# Altium integrated library Silicon Labs Clocks and Oscillators.IntLib: 678 symbols (part 4 of 45)
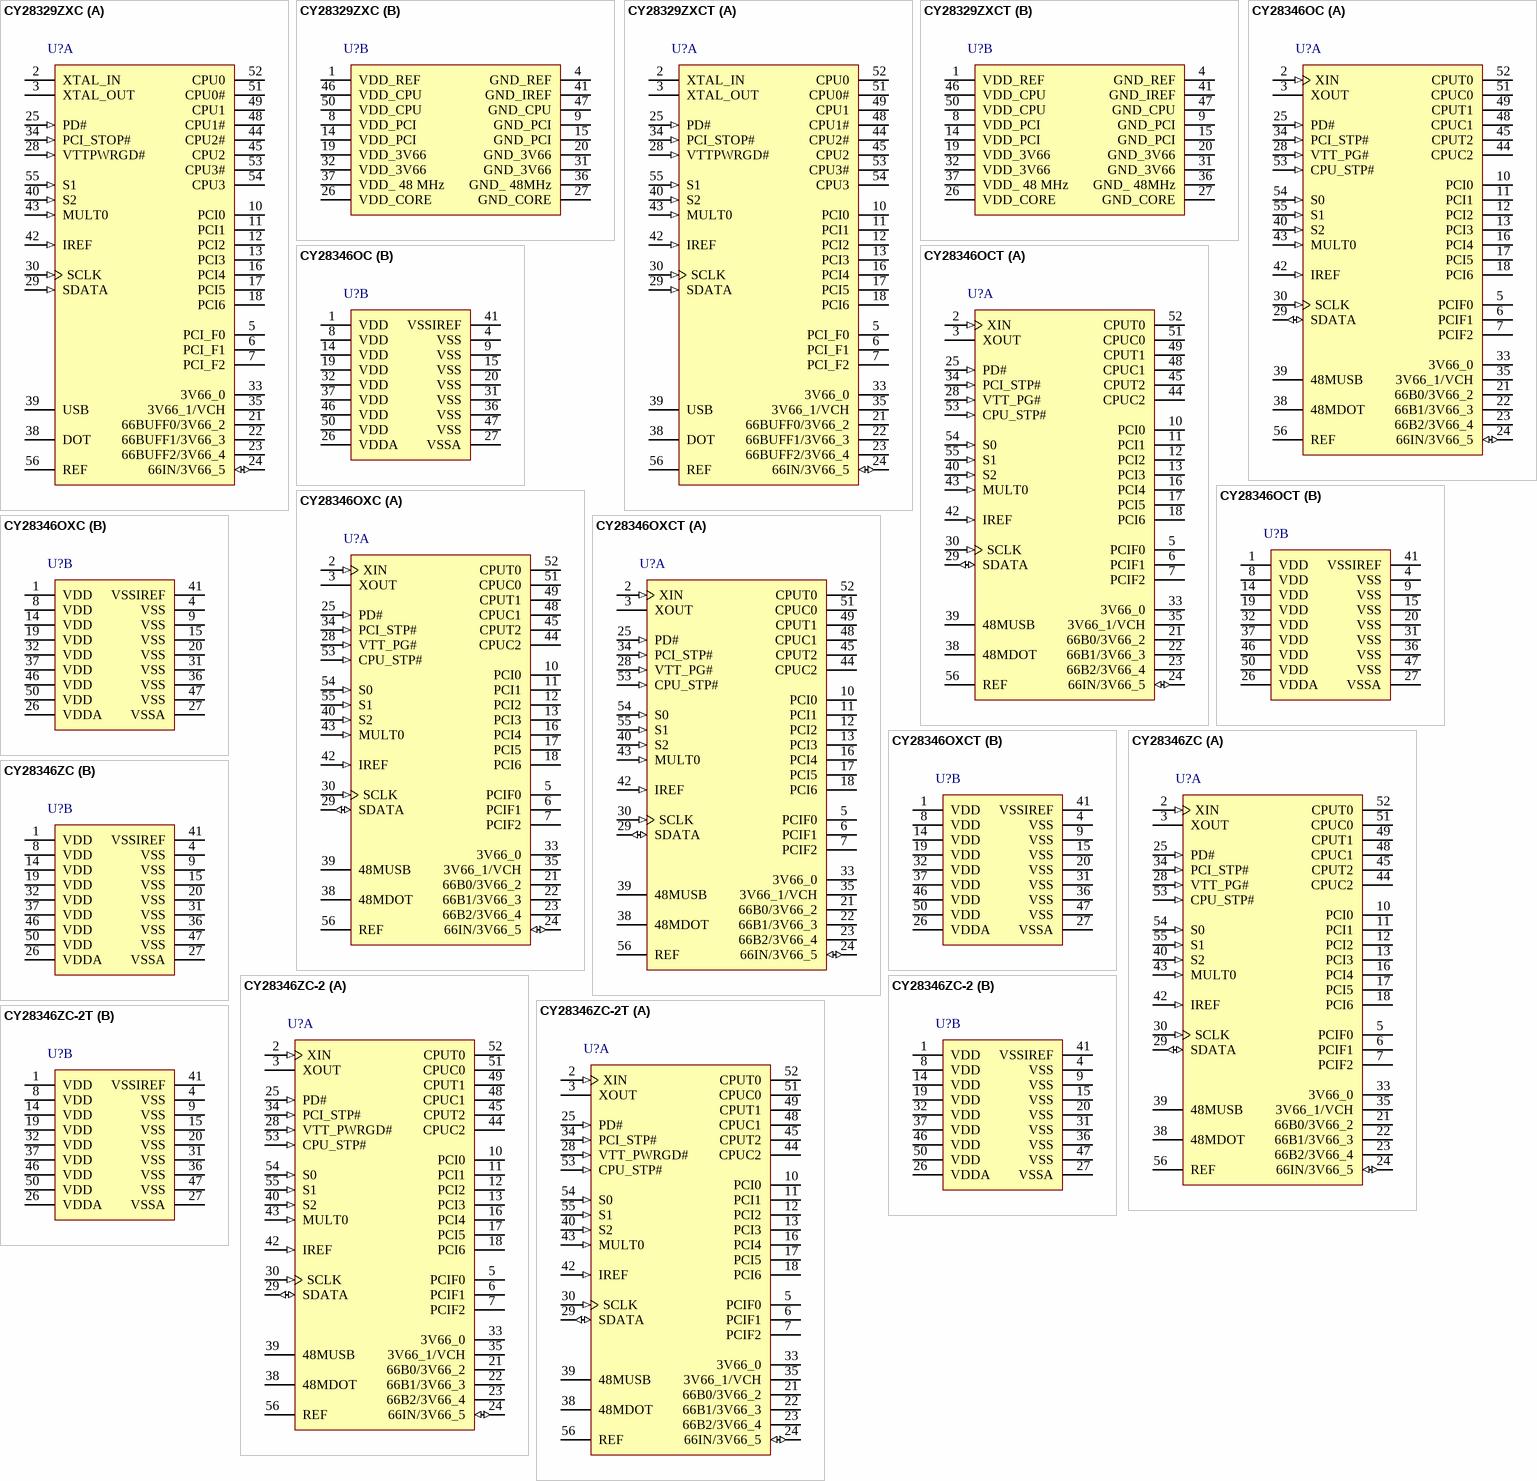
[diagram p47: symbols CY28329ZXC to CY28346ZC-2T]

## CY28346OCT
designator U?
Clock Synthesizer with Differential CPU Outputs, 3.3 V, 200 MHz Max Output, 0 to 70 degC, 56-pin SOP, Tape and Reel; Manufacturer: Silicon Labs; PartNumber: CY28346OCT; Output Format: LVCMOS; HCSL; Output Frequency (MHz): 14.318 ; 33 ; 48 ; 66 ; 66 to 200; Phase Jitter (RMS): > 1 ps; Reference Inputs: 1; VDD: 3.3 V; Sub-Family: Clock Generators; DatasheetVersion: Rev. *C; PackageReference: SSOP-56; PackageDescription: 56-Pin Shrink Small-Outline Package, Body 18.415 x 7.51 mm, Pitch 0.635 mm; Packing: Tape and Reel; Mounting Technology: Surface Mount; ComponentLink1Description: Manufacturer URL; ComponentLink1URL: http://www.silabs.com/; ComponentLink2Description: Datasheet; ComponentLink2URL: http://www.silabs.com/Support%20Documents/TechnicalDocs/CY28346.pdf; ComponentLink3Description: Package Specification; ComponentLink3URL: http://www.silabs.com/Support%20Documents/TechnicalDocs/W158.pdf
footprint SLAB-SSOP-56_N (SOP, 56-Leads, Body 18.5x7.6mm, Pitch 0.635mm, IPC Medium Density)
footprint SLAB-SSOP-56_L (SOP, 56-Leads, Body 18.5x7.6mm, Pitch 0.635mm, IPC High Density)
footprint SLAB-SSOP-56_M (SOP, 56-Leads, Body 18.5x7.6mm, Pitch 0.635mm, IPC Low Density)
part A pins: 2 XIN (in) "Oscillator Buffer Input", 3 XOUT "Oscillator Buffer Output", 5 PCIF0 (hiz) "33MHz PCI Clocks.", 6 PCIF1 (hiz) "33MHz PCI Clocks.", 7 PCIF2 (hiz) "33MHz PCI Clocks.", 10 PCI0 (hiz) "PCI Clock Outputs", 11 PCI1 (hiz) "PCI Clock Outputs", 12 PCI2 (hiz) "PCI Clock Outputs", 13 PCI3 (hiz) "PCI Clock Outputs", 16 PCI4 (hiz) "PCI Clock Outputs", 17 PCI5 (hiz) "PCI Clock Outputs", 18 PCI6 (hiz) "PCI Clock Outputs", 21 66B0/3V66_2 (hiz) "3.3V Clock Outputs", 22 66B1/3V66_3 (hiz) "3.3V Clock Outputs", 23 66B2/3V66_4 (hiz) "3.3V Clock Outputs", 24 66IN/3V66_5 (io) "3.3V Clock Outputs", 25 PD# (in) "Power-down Mode Pin", 28 VTT_PG# (in) "Qualifying Input that Latches S(0:2) and MULT0", 29 SDATA (io) "Serial Data Input", 30 SCLK (in) "Serial Clock Input", 33 3V66_0 (hiz) "3.3V 66 MHz Fixed-frequency Clock.", 34 PCI_STP# (in) "PCI Clock Disable Input", 35 3V66_1/VCH (hiz) "3.3V Clock Selectable with SMBus Byte0,Bit5, When Byte5,Bit5.", 38 48MDOT (hiz) "Fixed 48 MHZ DOT Clock Outputs", 39 48MUSB (hiz) "Fixed 48 MHz USB Clock Outputs", 40 S2 (in) "Frequency Select Input.", 42 IREF (in) "Current Reference Programming Input for CPU Buffers", 43 MULT0 (in) "Programming Input Selection for CPU Clock Current Multiplier.", 44 CPUC2 (hiz) "Differential Host Output Clock Pairs.", 45 CPUT2 (hiz) "Differential Host Output Clock Pairs.", 48 CPUC1 (hiz) "Differential Host Output Clock Pairs.", 49 CPUT1 (hiz) "Differential Host Output Clock Pairs.", 51 CPUC0 (hiz) "Differential Host Output Clock Pairs.", 52 CPUT0 (hiz) "Differential Host Output Clock Pairs.", 53 CPU_STP# (in) "CPU Clock Disable Input", 54 S0 (in) "Frequency Select Inputs", 55 S1 (in) "Frequency Select Inputs", 56 REF (hiz) "Buffered Output Copy of the Device’s XIN Clock."
part B pins: 1 VDD (power) "3.3V Power Supply", 4 VSS (power) "Common Ground.", 8 VDD (power) "3.3V Power Supply", 9 VSS (power) "Common Ground.", 14 VDD (power) "3.3V Power Supply", 15 VSS (power) "Common Ground.", 19 VDD (power) "3.3V Power Supply", 20 VSS (power) "Common Ground.", 26 VDDA (power) "Analog Power Input.", 27 VSSA (power) "Common Ground.", 31 VSS (power) "Common Ground.", 32 VDD (power) "3.3V Power Supply", 36 VSS (power) "Common Ground.", 37 VDD (power) "3.3V Power Supply", 41 VSSIREF (power) "Current Reference Programming Input for CPU Buffers", 46 VDD (power) "3.3V Power Supply", 47 VSS (power) "Common Ground.", 50 VDD (power) "3.3V Power Supply"

## CY28346OXC
designator U?
Clock Synthesizer with Differential CPU Outputs, 3.3 V, 200 MHz Max Output, 0 to 70 degC, 56-pin SOP, Tube; Manufacturer: Silicon Labs; PartNumber: CY28346OXC; Output Format: LVCMOS; HCSL; Output Frequency (MHz): 14.318 ; 33 ; 48 ; 66 ; 66 to 200; Phase Jitter (RMS): > 1 ps; Reference Inputs: 1; VDD: 3.3 V; Sub-Family: Clock Generators; DatasheetVersion: Rev. *C; PackageReference: SSOP-56; PackageDescription: 56-Pin Shrink Small-Outline Package, Body 18.415 x 7.51 mm, Pitch 0.635 mm; Supplier 1: Digi-Key; Supplier Part Number 1: SLCY28346OXC-ND; Supplier 2: Mouser; Supplier Part Number 2: 634-CY28346OXC; Packing: Tube; Mounting Technology: Surface Mount; ComponentLink1Description: Manufacturer URL; ComponentLink1URL: http://www.silabs.com/; ComponentLink2Description: Datasheet; ComponentLink2URL: http://www.silabs.com/Support%20Documents/TechnicalDocs/CY28346.pdf; ComponentLink3Description: Package Specification; ComponentLink3URL: http://www.silabs.com/Support%20Documents/TechnicalDocs/W158.pdf
footprint SLAB-SSOP-56_N (SOP, 56-Leads, Body 18.5x7.6mm, Pitch 0.635mm, IPC Medium Density)
footprint SLAB-SSOP-56_L (SOP, 56-Leads, Body 18.5x7.6mm, Pitch 0.635mm, IPC High Density)
footprint SLAB-SSOP-56_M (SOP, 56-Leads, Body 18.5x7.6mm, Pitch 0.635mm, IPC Low Density)
part A pins: 2 XIN (in) "Oscillator Buffer Input", 3 XOUT "Oscillator Buffer Output", 5 PCIF0 (hiz) "33MHz PCI Clocks.", 6 PCIF1 (hiz) "33MHz PCI Clocks.", 7 PCIF2 (hiz) "33MHz PCI Clocks.", 10 PCI0 (hiz) "PCI Clock Outputs", 11 PCI1 (hiz) "PCI Clock Outputs", 12 PCI2 (hiz) "PCI Clock Outputs", 13 PCI3 (hiz) "PCI Clock Outputs", 16 PCI4 (hiz) "PCI Clock Outputs", 17 PCI5 (hiz) "PCI Clock Outputs", 18 PCI6 (hiz) "PCI Clock Outputs", 21 66B0/3V66_2 (hiz) "3.3V Clock Outputs", 22 66B1/3V66_3 (hiz) "3.3V Clock Outputs", 23 66B2/3V66_4 (hiz) "3.3V Clock Outputs", 24 66IN/3V66_5 (io) "3.3V Clock Outputs", 25 PD# (in) "Power-down Mode Pin", 28 VTT_PG# (in) "Qualifying Input that Latches S(0:2) and MULT0", 29 SDATA (io) "Serial Data Input", 30 SCLK (in) "Serial Clock Input", 33 3V66_0 (hiz) "3.3V 66 MHz Fixed-frequency Clock.", 34 PCI_STP# (in) "PCI Clock Disable Input", 35 3V66_1/VCH (hiz) "3.3V Clock Selectable with SMBus Byte0,Bit5, When Byte5,Bit5.", 38 48MDOT (hiz) "Fixed 48 MHZ DOT Clock Outputs", 39 48MUSB (hiz) "Fixed 48 MHz USB Clock Outputs", 40 S2 (in) "Frequency Select Input.", 42 IREF (in) "Current Reference Programming Input for CPU Buffers", 43 MULT0 (in) "Programming Input Selection for CPU Clock Current Multiplier.", 44 CPUC2 (hiz) "Differential Host Output Clock Pairs.", 45 CPUT2 (hiz) "Differential Host Output Clock Pairs.", 48 CPUC1 (hiz) "Differential Host Output Clock Pairs.", 49 CPUT1 (hiz) "Differential Host Output Clock Pairs.", 51 CPUC0 (hiz) "Differential Host Output Clock Pairs.", 52 CPUT0 (hiz) "Differential Host Output Clock Pairs.", 53 CPU_STP# (in) "CPU Clock Disable Input", 54 S0 (in) "Frequency Select Inputs", 55 S1 (in) "Frequency Select Inputs", 56 REF (hiz) "Buffered Output Copy of the Device’s XIN Clock."
part B pins: 1 VDD (power) "3.3V Power Supply", 4 VSS (power) "Common Ground.", 8 VDD (power) "3.3V Power Supply", 9 VSS (power) "Common Ground.", 14 VDD (power) "3.3V Power Supply", 15 VSS (power) "Common Ground.", 19 VDD (power) "3.3V Power Supply", 20 VSS (power) "Common Ground.", 26 VDDA (power) "Analog Power Input.", 27 VSSA (power) "Common Ground.", 31 VSS (power) "Common Ground.", 32 VDD (power) "3.3V Power Supply", 36 VSS (power) "Common Ground.", 37 VDD (power) "3.3V Power Supply", 41 VSSIREF (power) "Current Reference Programming Input for CPU Buffers", 46 VDD (power) "3.3V Power Supply", 47 VSS (power) "Common Ground.", 50 VDD (power) "3.3V Power Supply"

## CY28346OXCT
designator U?
Clock Synthesizer with Differential CPU Outputs, 3.3 V, 200 MHz Max Output, 0 to 70 degC, 56-pin SOP, Tape and Reel; Manufacturer: Silicon Labs; PartNumber: CY28346OXCT; Output Format: LVCMOS; HCSL; Output Frequency (MHz): 14.318 ; 33 ; 48 ; 66 ; 66 to 200; Phase Jitter (RMS): > 1 ps; Reference Inputs: 1; VDD: 3.3 V; Sub-Family: Clock Generators; DatasheetVersion: Rev. *C; PackageReference: SSOP-56; PackageDescription: 56-Pin Shrink Small-Outline Package, Body 18.415 x 7.51 mm, Pitch 0.635 mm; Supplier 1: Digi-Key; Supplier Part Number 1: SLCY28346OXCT-ND; Supplier 2: Mouser; Supplier Part Number 2: 634-CY28346OXCT; Packing: Tape and Reel; Mounting Technology: Surface Mount; ComponentLink1Description: Manufacturer URL; ComponentLink1URL: http://www.silabs.com/; ComponentLink2Description: Datasheet; ComponentLink2URL: http://www.silabs.com/Support%20Documents/TechnicalDocs/CY28346.pdf; ComponentLink3Description: Package Specification; ComponentLink3URL: http://www.silabs.com/Support%20Documents/TechnicalDocs/W158.pdf
footprint SLAB-SSOP-56_N (SOP, 56-Leads, Body 18.5x7.6mm, Pitch 0.635mm, IPC Medium Density)
footprint SLAB-SSOP-56_L (SOP, 56-Leads, Body 18.5x7.6mm, Pitch 0.635mm, IPC High Density)
footprint SLAB-SSOP-56_M (SOP, 56-Leads, Body 18.5x7.6mm, Pitch 0.635mm, IPC Low Density)
part A pins: 2 XIN (in) "Oscillator Buffer Input", 3 XOUT "Oscillator Buffer Output", 5 PCIF0 (hiz) "33MHz PCI Clocks.", 6 PCIF1 (hiz) "33MHz PCI Clocks.", 7 PCIF2 (hiz) "33MHz PCI Clocks.", 10 PCI0 (hiz) "PCI Clock Outputs", 11 PCI1 (hiz) "PCI Clock Outputs", 12 PCI2 (hiz) "PCI Clock Outputs", 13 PCI3 (hiz) "PCI Clock Outputs", 16 PCI4 (hiz) "PCI Clock Outputs", 17 PCI5 (hiz) "PCI Clock Outputs", 18 PCI6 (hiz) "PCI Clock Outputs", 21 66B0/3V66_2 (hiz) "3.3V Clock Outputs", 22 66B1/3V66_3 (hiz) "3.3V Clock Outputs", 23 66B2/3V66_4 (hiz) "3.3V Clock Outputs", 24 66IN/3V66_5 (io) "3.3V Clock Outputs", 25 PD# (in) "Power-down Mode Pin", 28 VTT_PG# (in) "Qualifying Input that Latches S(0:2) and MULT0", 29 SDATA (io) "Serial Data Input", 30 SCLK (in) "Serial Clock Input", 33 3V66_0 (hiz) "3.3V 66 MHz Fixed-frequency Clock.", 34 PCI_STP# (in) "PCI Clock Disable Input", 35 3V66_1/VCH (hiz) "3.3V Clock Selectable with SMBus Byte0,Bit5, When Byte5,Bit5.", 38 48MDOT (hiz) "Fixed 48 MHZ DOT Clock Outputs", 39 48MUSB (hiz) "Fixed 48 MHz USB Clock Outputs", 40 S2 (in) "Frequency Select Input.", 42 IREF (in) "Current Reference Programming Input for CPU Buffers", 43 MULT0 (in) "Programming Input Selection for CPU Clock Current Multiplier.", 44 CPUC2 (hiz) "Differential Host Output Clock Pairs.", 45 CPUT2 (hiz) "Differential Host Output Clock Pairs.", 48 CPUC1 (hiz) "Differential Host Output Clock Pairs.", 49 CPUT1 (hiz) "Differential Host Output Clock Pairs.", 51 CPUC0 (hiz) "Differential Host Output Clock Pairs.", 52 CPUT0 (hiz) "Differential Host Output Clock Pairs.", 53 CPU_STP# (in) "CPU Clock Disable Input", 54 S0 (in) "Frequency Select Inputs", 55 S1 (in) "Frequency Select Inputs", 56 REF (hiz) "Buffered Output Copy of the Device’s XIN Clock."
part B pins: 1 VDD (power) "3.3V Power Supply", 4 VSS (power) "Common Ground.", 8 VDD (power) "3.3V Power Supply", 9 VSS (power) "Common Ground.", 14 VDD (power) "3.3V Power Supply", 15 VSS (power) "Common Ground.", 19 VDD (power) "3.3V Power Supply", 20 VSS (power) "Common Ground.", 26 VDDA (power) "Analog Power Input.", 27 VSSA (power) "Common Ground.", 31 VSS (power) "Common Ground.", 32 VDD (power) "3.3V Power Supply", 36 VSS (power) "Common Ground.", 37 VDD (power) "3.3V Power Supply", 41 VSSIREF (power) "Current Reference Programming Input for CPU Buffers", 46 VDD (power) "3.3V Power Supply", 47 VSS (power) "Common Ground.", 50 VDD (power) "3.3V Power Supply"

## CY28346ZC
designator U?
Clock Synthesizer with Differential CPU Outputs, 3.3 V, 200 MHz Max Output, 0 to 70 degC, 56-pin SOP, Tube; Manufacturer: Silicon Labs; PartNumber: CY28346ZC; Output Format: LVCMOS; HCSL; Output Frequency (MHz): 14.318 ; 33 ; 48 ; 66 ; 66 to 200; Phase Jitter (RMS): > 1 ps; Reference Inputs: 1; VDD: 3.3 V; Sub-Family: Clock Generators; DatasheetVersion: Rev. *C; PackageReference: TSSOP-56; PackageDescription: 56-Pin Thin Shrink Small-Outline Package, Body 14 x 6.1 mm, Pitch 0.5 mm; Supplier 1: Digi-Key; Supplier Part Number 1: CY28346ZC-ND; Supplier 2: Mouser; Supplier Part Number 2: 634-CY28346ZC; Packing: Tube; Mounting Technology: Surface Mount; Code_JEDEC: MO-153; ComponentLink1Description: Manufacturer URL; ComponentLink1URL: http://www.silabs.com/; ComponentLink2Description: Datasheet; ComponentLink2URL: http://www.silabs.com/Support%20Documents/TechnicalDocs/CY28346.pdf; ComponentLink3Description: Package Specification; ComponentLink3URL: http://www.silabs.com/Support%20Documents/TechnicalDocs/CY28346-2.pdf
footprint SLAB-TSSOP-56_N (SOP, 56-Leads, Body 14.1x6.2mm, Pitch 0.5mm, IPC Medium Density)
footprint SLAB-TSSOP-56_L (SOP, 56-Leads, Body 14.1x6.2mm, Pitch 0.5mm, IPC High Density)
footprint SLAB-TSSOP-56_M (SOP, 56-Leads, Body 14.1x6.2mm, Pitch 0.5mm, IPC Low Density)
part A pins: 2 XIN (in) "Oscillator Buffer Input", 3 XOUT "Oscillator Buffer Output", 5 PCIF0 (hiz) "33MHz PCI Clocks.", 6 PCIF1 (hiz) "33MHz PCI Clocks.", 7 PCIF2 (hiz) "33MHz PCI Clocks.", 10 PCI0 (hiz) "PCI Clock Outputs", 11 PCI1 (hiz) "PCI Clock Outputs", 12 PCI2 (hiz) "PCI Clock Outputs", 13 PCI3 (hiz) "PCI Clock Outputs", 16 PCI4 (hiz) "PCI Clock Outputs", 17 PCI5 (hiz) "PCI Clock Outputs", 18 PCI6 (hiz) "PCI Clock Outputs", 21 66B0/3V66_2 (hiz) "3.3V Clock Outputs", 22 66B1/3V66_3 (hiz) "3.3V Clock Outputs", 23 66B2/3V66_4 (hiz) "3.3V Clock Outputs", 24 66IN/3V66_5 (io) "3.3V Clock Outputs", 25 PD# (in) "Power-down Mode Pin", 28 VTT_PG# (in) "Qualifying Input that Latches S(0:2) and MULT0", 29 SDATA (io) "Serial Data Input", 30 SCLK (in) "Serial Clock Input", 33 3V66_0 (hiz) "3.3V 66 MHz Fixed-frequency Clock.", 34 PCI_STP# (in) "PCI Clock Disable Input", 35 3V66_1/VCH (hiz) "3.3V Clock Selectable with SMBus Byte0,Bit5, When Byte5,Bit5.", 38 48MDOT (hiz) "Fixed 48 MHZ DOT Clock Outputs", 39 48MUSB (hiz) "Fixed 48 MHz USB Clock Outputs", 40 S2 (in) "Frequency Select Input.", 42 IREF (in) "Current Reference Programming Input for CPU Buffers", 43 MULT0 (in) "Programming Input Selection for CPU Clock Current Multiplier.", 44 CPUC2 (hiz) "Differential Host Output Clock Pairs.", 45 CPUT2 (hiz) "Differential Host Output Clock Pairs.", 48 CPUC1 (hiz) "Differential Host Output Clock Pairs.", 49 CPUT1 (hiz) "Differential Host Output Clock Pairs.", 51 CPUC0 (hiz) "Differential Host Output Clock Pairs.", 52 CPUT0 (hiz) "Differential Host Output Clock Pairs.", 53 CPU_STP# (in) "CPU Clock Disable Input", 54 S0 (in) "Frequency Select Inputs", 55 S1 (in) "Frequency Select Inputs", 56 REF (hiz) "Buffered Output Copy of the Device’s XIN Clock."
part B pins: 1 VDD (power) "3.3V Power Supply", 4 VSS (power) "Common Ground.", 8 VDD (power) "3.3V Power Supply", 9 VSS (power) "Common Ground.", 14 VDD (power) "3.3V Power Supply", 15 VSS (power) "Common Ground.", 19 VDD (power) "3.3V Power Supply", 20 VSS (power) "Common Ground.", 26 VDDA (power) "Analog Power Input.", 27 VSSA (power) "Common Ground.", 31 VSS (power) "Common Ground.", 32 VDD (power) "3.3V Power Supply", 36 VSS (power) "Common Ground.", 37 VDD (power) "3.3V Power Supply", 41 VSSIREF (power) "Current Reference Programming Input for CPU Buffers", 46 VDD (power) "3.3V Power Supply", 47 VSS (power) "Common Ground.", 50 VDD (power) "3.3V Power Supply"

## CY28346ZC-2
designator U?
Clock Synthesizer with Differential CPU Outputs, 3.3 V, 200 MHz Max Output, 0 to 70 degC, 56-pin SOP, Tube; Manufacturer: Silicon Labs; PartNumber: CY28346ZC-2; Output Format: LVCMOS; HCSL; Output Frequency (MHz): 14.318 ; 33 ; 48 ; 66 ; 66 to 200; Phase Jitter (RMS): > 1 ps; Reference Inputs: 1; VDD: 3.3 V; Sub-Family: Clock Generators; DatasheetVersion: Rev. *B; PackageReference: TSSOP-56; PackageDescription: 56-Pin Thin Shrink Small-Outline Package, Body 14 x 6.1 mm, Pitch 0.5 mm; Packing: Tube; Mounting Technology: Surface Mount; Code_JEDEC: MO-153; ComponentLink1Description: Manufacturer URL; ComponentLink1URL: http://www.silabs.com/; ComponentLink2Description: Datasheet; ComponentLink2URL: http://www.silabs.com/Support%20Documents/TechnicalDocs/CY28346-2.pdf; ComponentLink3Description: Package Specification; ComponentLink3URL: http://www.silabs.com/Support%20Documents/TechnicalDocs/CY28346-2.pdf
footprint SLAB-TSSOP-56_N (SOP, 56-Leads, Body 14.1x6.2mm, Pitch 0.5mm, IPC Medium Density)
footprint SLAB-TSSOP-56_L (SOP, 56-Leads, Body 14.1x6.2mm, Pitch 0.5mm, IPC High Density)
footprint SLAB-TSSOP-56_M (SOP, 56-Leads, Body 14.1x6.2mm, Pitch 0.5mm, IPC Low Density)
part A pins: 2 XIN (in) "Oscillator Buffer Input", 3 XOUT "Oscillator Buffer Output", 5 PCIF0 (hiz) "33MHz PCI Clocks.", 6 PCIF1 (hiz) "33MHz PCI Clocks.", 7 PCIF2 (hiz) "33MHz PCI Clocks.", 10 PCI0 (hiz) "PCI Clock Outputs", 11 PCI1 (hiz) "PCI Clock Outputs", 12 PCI2 (hiz) "PCI Clock Outputs", 13 PCI3 (hiz) "PCI Clock Outputs", 16 PCI4 (hiz) "PCI Clock Outputs", 17 PCI5 (hiz) "PCI Clock Outputs", 18 PCI6 (hiz) "PCI Clock Outputs", 21 66B0/3V66_2 (hiz) "3.3V Clock Outputs", 22 66B1/3V66_3 (hiz) "3.3V Clock Outputs", 23 66B2/3V66_4 (hiz) "3.3V Clock Outputs", 24 66IN/3V66_5 (io) "Input connection for 66CLK(0:2) output clock buffers if S2 = 1", 25 PD# (in) "This pin is a power-down mode pin.", 28 VTT_PWRGD# (in) "Qualifying Input that Latches S(0:2) and MULT0", 29 SDATA (io) "Serial Data Input", 30 SCLK (in) "Serial Clock Input", 33 3V66_0 (hiz) "3.3V 66 MHz Fixed-frequency Clock.", 34 PCI_STP# (in) "PCI Clock Disable Input", 35 3V66_1/VCH (hiz) "3.3V Clock Selectable with SMBus Byte0,Bit5, When Byte5,Bit5.", 38 48MDOT (hiz) "Fixed 48 MHZ DOT Clock Outputs", 39 48MUSB (hiz) "Fixed 48 MHz USB Clock Outputs", 40 S2 (in) "Frequency Select Input.", 42 IREF (in) "Current Reference Programming Input for CPU Buffers", 43 MULT0 (in) "Programming Input Selection for CPU Clock Current Multiplier.", 44 CPUC2 (hiz) "Differential Host Output Clock Pairs.", 45 CPUT2 (hiz) "Differential Host Output Clock Pairs.", 48 CPUC1 (hiz) "Differential Host Output Clock Pairs.", 49 CPUT1 (hiz) "Differential Host Output Clock Pairs.", 51 CPUC0 (hiz) "Differential Host Output Clock Pairs.", 52 CPUT0 (hiz) "Differential Host Output Clock Pairs.", 53 CPU_STP# (in) "CPU Clock Disable Input", 54 S0 (in) "Frequency Select Inputs", 55 S1 (in) "Frequency Select Inputs", 56 REF (hiz) "Buffered Output Copy of the Device’s XIN Clock."
part B pins: 1 VDD (power) "3.3V Power Supply", 4 VSS (power) "Common Ground.", 8 VDD (power) "3.3V Power Supply", 9 VSS (power) "Common Ground.", 14 VDD (power) "3.3V Power Supply", 15 VSS (power) "Common Ground.", 19 VDD (power) "3.3V Power Supply", 20 VSS (power) "Common Ground.", 26 VDDA (power) "Analog Power Input.", 27 VSSA (power) "Common Ground.", 31 VSS (power) "Common Ground.", 32 VDD (power) "3.3V Power Supply", 36 VSS (power) "Common Ground.", 37 VDD (power) "3.3V Power Supply", 41 VSSIREF (power) "Current Reference Programming Input for CPU Buffers", 46 VDD (power) "3.3V Power Supply", 47 VSS (power) "Common Ground.", 50 VDD (power) "3.3V Power Supply"

## CY28346ZC-2T
designator U?
Clock Synthesizer with Differential CPU Outputs, 3.3 V, 200 MHz Max Output, 0 to 70 degC, 56-pin SOP, Tape and Reel; Manufacturer: Silicon Labs; PartNumber: CY28346ZC-2T; Output Format: LVCMOS; HCSL; Output Frequency (MHz): 14.318 ; 33 ; 48 ; 66 ; 66 to 200; Phase Jitter (RMS): > 1 ps; Reference Inputs: 1; VDD: 3.3 V; Sub-Family: Clock Generators; DatasheetVersion: Rev. *B; PackageReference: TSSOP-56; PackageDescription: 56-Pin Thin Shrink Small-Outline Package, Body 14 x 6.1 mm, Pitch 0.5 mm; Packing: Tape and Reel; Mounting Technology: Surface Mount; Code_JEDEC: MO-153; ComponentLink1Description: Manufacturer URL; ComponentLink1URL: http://www.silabs.com/; ComponentLink2Description: Datasheet; ComponentLink2URL: http://www.silabs.com/Support%20Documents/TechnicalDocs/CY28346-2.pdf; ComponentLink3Description: Package Specification; ComponentLink3URL: http://www.silabs.com/Support%20Documents/TechnicalDocs/CY28346-2.pdf
footprint SLAB-TSSOP-56_N (SOP, 56-Leads, Body 14.1x6.2mm, Pitch 0.5mm, IPC Medium Density)
footprint SLAB-TSSOP-56_L (SOP, 56-Leads, Body 14.1x6.2mm, Pitch 0.5mm, IPC High Density)
footprint SLAB-TSSOP-56_M (SOP, 56-Leads, Body 14.1x6.2mm, Pitch 0.5mm, IPC Low Density)
part A pins: 2 XIN (in) "Oscillator Buffer Input", 3 XOUT "Oscillator Buffer Output", 5 PCIF0 (hiz) "33MHz PCI Clocks.", 6 PCIF1 (hiz) "33MHz PCI Clocks.", 7 PCIF2 (hiz) "33MHz PCI Clocks.", 10 PCI0 (hiz) "PCI Clock Outputs", 11 PCI1 (hiz) "PCI Clock Outputs", 12 PCI2 (hiz) "PCI Clock Outputs", 13 PCI3 (hiz) "PCI Clock Outputs", 16 PCI4 (hiz) "PCI Clock Outputs", 17 PCI5 (hiz) "PCI Clock Outputs", 18 PCI6 (hiz) "PCI Clock Outputs", 21 66B0/3V66_2 (hiz) "3.3V Clock Outputs", 22 66B1/3V66_3 (hiz) "3.3V Clock Outputs", 23 66B2/3V66_4 (hiz) "3.3V Clock Outputs", 24 66IN/3V66_5 (io) "Input connection for 66CLK(0:2) output clock buffers if S2 = 1", 25 PD# (in) "This pin is a power-down mode pin.", 28 VTT_PWRGD# (in) "Qualifying Input that Latches S(0:2) and MULT0", 29 SDATA (io) "Serial Data Input", 30 SCLK (in) "Serial Clock Input", 33 3V66_0 (hiz) "3.3V 66 MHz Fixed-frequency Clock.", 34 PCI_STP# (in) "PCI Clock Disable Input", 35 3V66_1/VCH (hiz) "3.3V Clock Selectable with SMBus Byte0,Bit5, When Byte5,Bit5.", 38 48MDOT (hiz) "Fixed 48 MHZ DOT Clock Outputs", 39 48MUSB (hiz) "Fixed 48 MHz USB Clock Outputs", 40 S2 (in) "Frequency Select Input.", 42 IREF (in) "Current Reference Programming Input for CPU Buffers", 43 MULT0 (in) "Programming Input Selection for CPU Clock Current Multiplier.", 44 CPUC2 (hiz) "Differential Host Output Clock Pairs.", 45 CPUT2 (hiz) "Differential Host Output Clock Pairs.", 48 CPUC1 (hiz) "Differential Host Output Clock Pairs.", 49 CPUT1 (hiz) "Differential Host Output Clock Pairs.", 51 CPUC0 (hiz) "Differential Host Output Clock Pairs.", 52 CPUT0 (hiz) "Differential Host Output Clock Pairs.", 53 CPU_STP# (in) "CPU Clock Disable Input", 54 S0 (in) "Frequency Select Inputs", 55 S1 (in) "Frequency Select Inputs", 56 REF (hiz) "Buffered Output Copy of the Device’s XIN Clock."
part B pins: 1 VDD (power) "3.3V Power Supply", 4 VSS (power) "Common Ground.", 8 VDD (power) "3.3V Power Supply", 9 VSS (power) "Common Ground.", 14 VDD (power) "3.3V Power Supply", 15 VSS (power) "Common Ground.", 19 VDD (power) "3.3V Power Supply", 20 VSS (power) "Common Ground.", 26 VDDA (power) "Analog Power Input.", 27 VSSA (power) "Common Ground.", 31 VSS (power) "Common Ground.", 32 VDD (power) "3.3V Power Supply", 36 VSS (power) "Common Ground.", 37 VDD (power) "3.3V Power Supply", 41 VSSIREF (power) "Current Reference Programming Input for CPU Buffers", 46 VDD (power) "3.3V Power Supply", 47 VSS (power) "Common Ground.", 50 VDD (power) "3.3V Power Supply"

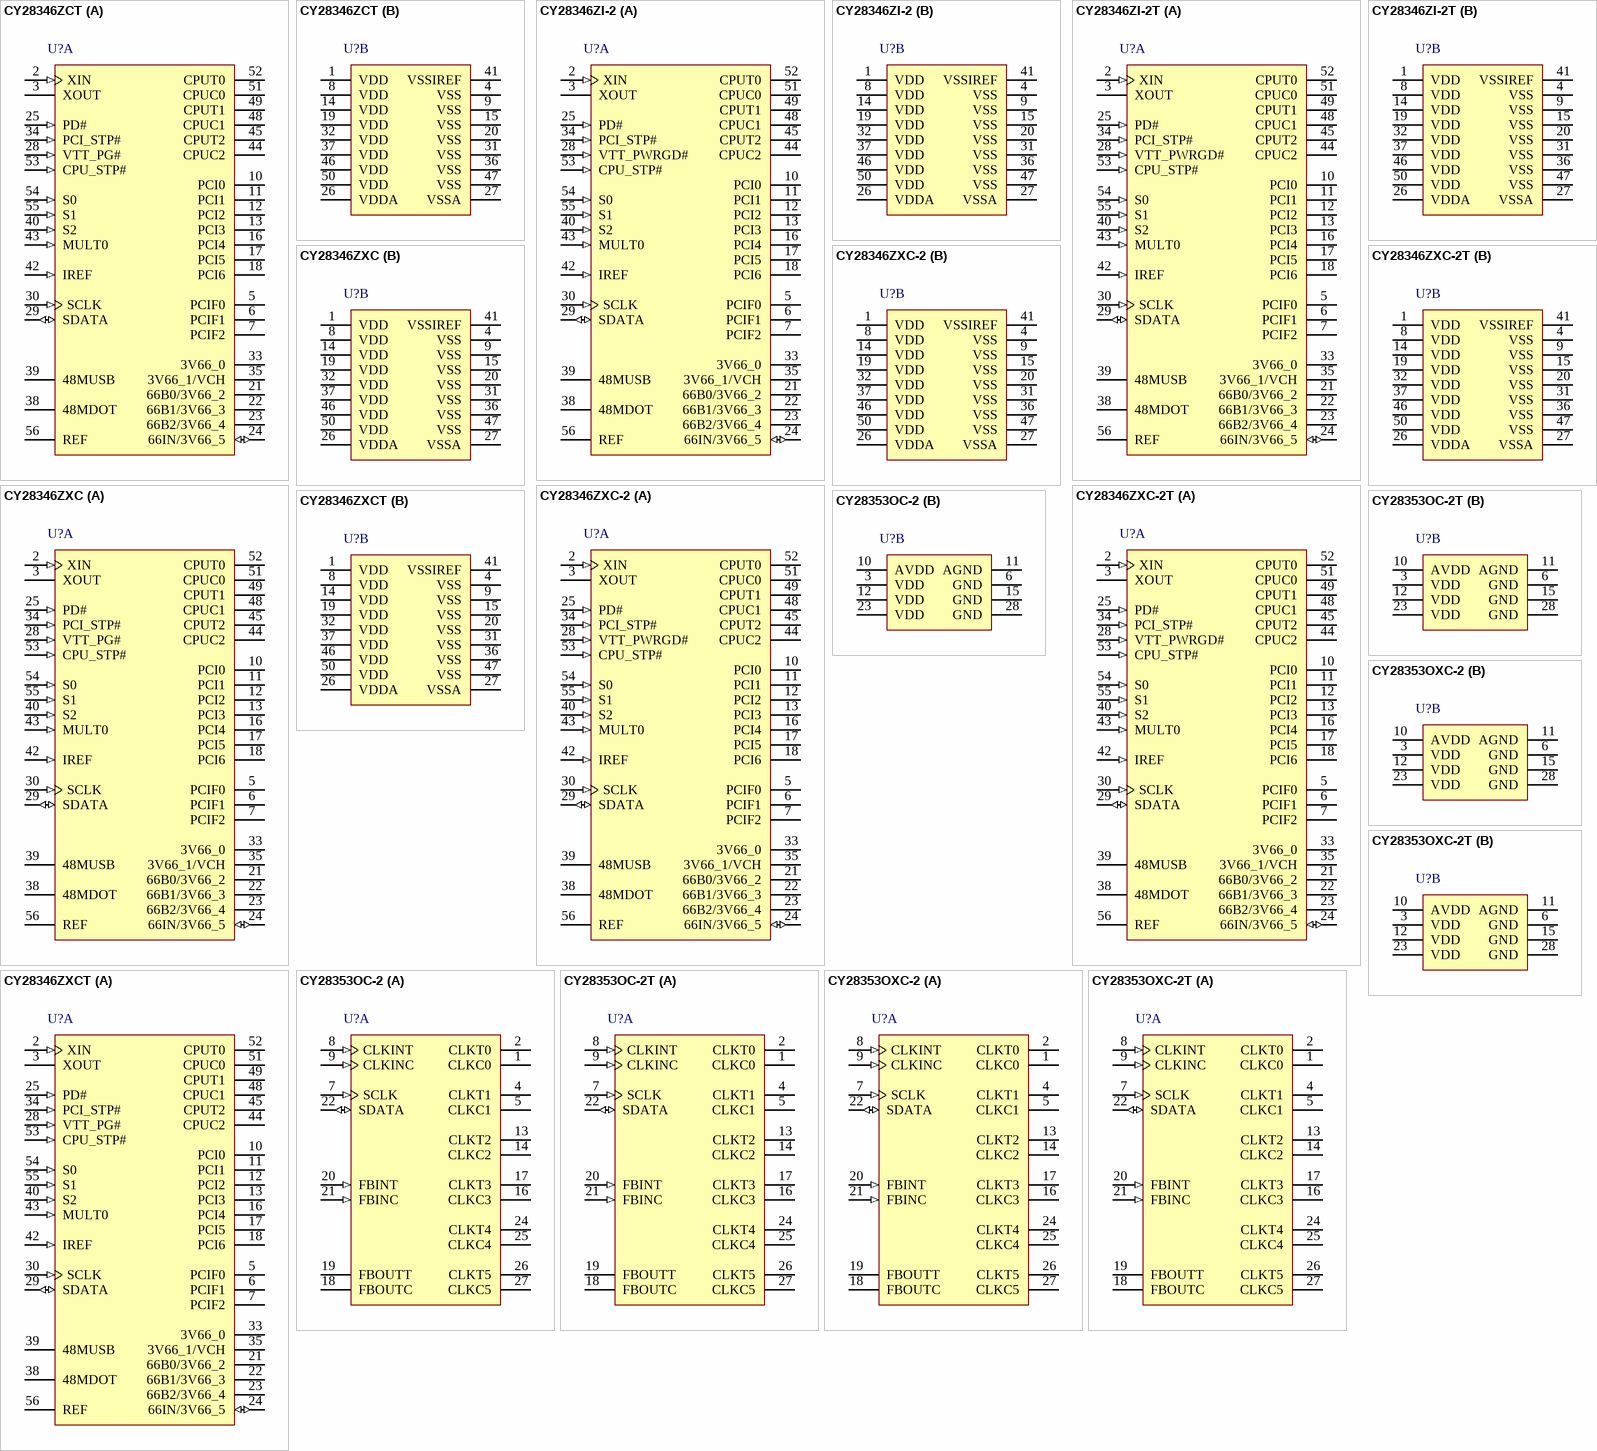
[diagram p4: symbols CY28346ZCT to CY28353OXC-2T]

## CY28346ZCT
designator U?
Clock Synthesizer with Differential CPU Outputs, 3.3 V, 200 MHz Max Output, 0 to 70 degC, 56-pin SOP, Tape and Reel; Manufacturer: Silicon Labs; PartNumber: CY28346ZCT; Output Format: LVCMOS; HCSL; Output Frequency (MHz): 14.318 ; 33 ; 48 ; 66 ; 66 to 200; Phase Jitter (RMS): > 1 ps; Reference Inputs: 1; VDD: 3.3 V; Sub-Family: Clock Generators; DatasheetVersion: Rev. *C; PackageReference: TSSOP-56; PackageDescription: 56-Pin Thin Shrink Small-Outline Package, Body 14 x 6.1 mm, Pitch 0.5 mm; Supplier 1: Digi-Key; Supplier Part Number 1: CY28346ZCT-ND; Supplier 2: Mouser; Supplier Part Number 2: 634-CY28346ZCT; Packing: Tape and Reel; Mounting Technology: Surface Mount; Code_JEDEC: MO-153; ComponentLink1Description: Manufacturer URL; ComponentLink1URL: http://www.silabs.com/; ComponentLink2Description: Datasheet; ComponentLink2URL: http://www.silabs.com/Support%20Documents/TechnicalDocs/CY28346.pdf; ComponentLink3Description: Package Specification; ComponentLink3URL: http://www.silabs.com/Support%20Documents/TechnicalDocs/CY28346-2.pdf
footprint SLAB-TSSOP-56_N (SOP, 56-Leads, Body 14.1x6.2mm, Pitch 0.5mm, IPC Medium Density)
footprint SLAB-TSSOP-56_L (SOP, 56-Leads, Body 14.1x6.2mm, Pitch 0.5mm, IPC High Density)
footprint SLAB-TSSOP-56_M (SOP, 56-Leads, Body 14.1x6.2mm, Pitch 0.5mm, IPC Low Density)
part A pins: 2 XIN (in) "Oscillator Buffer Input", 3 XOUT "Oscillator Buffer Output", 5 PCIF0 (hiz) "33MHz PCI Clocks.", 6 PCIF1 (hiz) "33MHz PCI Clocks.", 7 PCIF2 (hiz) "33MHz PCI Clocks.", 10 PCI0 (hiz) "PCI Clock Outputs", 11 PCI1 (hiz) "PCI Clock Outputs", 12 PCI2 (hiz) "PCI Clock Outputs", 13 PCI3 (hiz) "PCI Clock Outputs", 16 PCI4 (hiz) "PCI Clock Outputs", 17 PCI5 (hiz) "PCI Clock Outputs", 18 PCI6 (hiz) "PCI Clock Outputs", 21 66B0/3V66_2 (hiz) "3.3V Clock Outputs", 22 66B1/3V66_3 (hiz) "3.3V Clock Outputs", 23 66B2/3V66_4 (hiz) "3.3V Clock Outputs", 24 66IN/3V66_5 (io) "3.3V Clock Outputs", 25 PD# (in) "Power-down Mode Pin", 28 VTT_PG# (in) "Qualifying Input that Latches S(0:2) and MULT0", 29 SDATA (io) "Serial Data Input", 30 SCLK (in) "Serial Clock Input", 33 3V66_0 (hiz) "3.3V 66 MHz Fixed-frequency Clock.", 34 PCI_STP# (in) "PCI Clock Disable Input", 35 3V66_1/VCH (hiz) "3.3V Clock Selectable with SMBus Byte0,Bit5, When Byte5,Bit5.", 38 48MDOT (hiz) "Fixed 48 MHZ DOT Clock Outputs", 39 48MUSB (hiz) "Fixed 48 MHz USB Clock Outputs", 40 S2 (in) "Frequency Select Input.", 42 IREF (in) "Current Reference Programming Input for CPU Buffers", 43 MULT0 (in) "Programming Input Selection for CPU Clock Current Multiplier.", 44 CPUC2 (hiz) "Differential Host Output Clock Pairs.", 45 CPUT2 (hiz) "Differential Host Output Clock Pairs.", 48 CPUC1 (hiz) "Differential Host Output Clock Pairs.", 49 CPUT1 (hiz) "Differential Host Output Clock Pairs.", 51 CPUC0 (hiz) "Differential Host Output Clock Pairs.", 52 CPUT0 (hiz) "Differential Host Output Clock Pairs.", 53 CPU_STP# (in) "CPU Clock Disable Input", 54 S0 (in) "Frequency Select Inputs", 55 S1 (in) "Frequency Select Inputs", 56 REF (hiz) "Buffered Output Copy of the Device’s XIN Clock."
part B pins: 1 VDD (power) "3.3V Power Supply", 4 VSS (power) "Common Ground.", 8 VDD (power) "3.3V Power Supply", 9 VSS (power) "Common Ground.", 14 VDD (power) "3.3V Power Supply", 15 VSS (power) "Common Ground.", 19 VDD (power) "3.3V Power Supply", 20 VSS (power) "Common Ground.", 26 VDDA (power) "Analog Power Input.", 27 VSSA (power) "Common Ground.", 31 VSS (power) "Common Ground.", 32 VDD (power) "3.3V Power Supply", 36 VSS (power) "Common Ground.", 37 VDD (power) "3.3V Power Supply", 41 VSSIREF (power) "Current Reference Programming Input for CPU Buffers", 46 VDD (power) "3.3V Power Supply", 47 VSS (power) "Common Ground.", 50 VDD (power) "3.3V Power Supply"

## CY28346ZI-2
designator U?
Clock Synthesizer with Differential CPU Outputs, 3.3 V, 200 MHz Max Output, 0 to 85 degC, 56-pin SOP, Tube; Manufacturer: Silicon Labs; PartNumber: CY28346ZI-2; Output Format: LVCMOS; HCSL; Output Frequency (MHz): 14.318 ; 33 ; 48 ; 66 ; 66 to 200; Phase Jitter (RMS): > 1 ps; Reference Inputs: 1; VDD: 3.3 V; Sub-Family: Clock Generators; DatasheetVersion: Rev. *B; PackageReference: TSSOP-56; PackageDescription: 56-Pin Thin Shrink Small-Outline Package, Body 14 x 6.1 mm, Pitch 0.5 mm; Supplier 1: Digi-Key; Supplier Part Number 1: CY28346ZI-2-ND; Supplier 2: Mouser; Supplier Part Number 2: 634-CY28346ZI-2; Packing: Tube; Mounting Technology: Surface Mount; Code_JEDEC: MO-153; ComponentLink1Description: Manufacturer URL; ComponentLink1URL: http://www.silabs.com/; ComponentLink2Description: Datasheet; ComponentLink2URL: http://www.silabs.com/Support%20Documents/TechnicalDocs/CY28346-2.pdf; ComponentLink3Description: Package Specification; ComponentLink3URL: http://www.silabs.com/Support%20Documents/TechnicalDocs/CY28346-2.pdf
footprint SLAB-TSSOP-56_N (SOP, 56-Leads, Body 14.1x6.2mm, Pitch 0.5mm, IPC Medium Density)
footprint SLAB-TSSOP-56_L (SOP, 56-Leads, Body 14.1x6.2mm, Pitch 0.5mm, IPC High Density)
footprint SLAB-TSSOP-56_M (SOP, 56-Leads, Body 14.1x6.2mm, Pitch 0.5mm, IPC Low Density)
part A pins: 2 XIN (in) "Oscillator Buffer Input", 3 XOUT "Oscillator Buffer Output", 5 PCIF0 (hiz) "33MHz PCI Clocks.", 6 PCIF1 (hiz) "33MHz PCI Clocks.", 7 PCIF2 (hiz) "33MHz PCI Clocks.", 10 PCI0 (hiz) "PCI Clock Outputs", 11 PCI1 (hiz) "PCI Clock Outputs", 12 PCI2 (hiz) "PCI Clock Outputs", 13 PCI3 (hiz) "PCI Clock Outputs", 16 PCI4 (hiz) "PCI Clock Outputs", 17 PCI5 (hiz) "PCI Clock Outputs", 18 PCI6 (hiz) "PCI Clock Outputs", 21 66B0/3V66_2 (hiz) "3.3V Clock Outputs", 22 66B1/3V66_3 (hiz) "3.3V Clock Outputs", 23 66B2/3V66_4 (hiz) "3.3V Clock Outputs", 24 66IN/3V66_5 (io) "Input connection for 66CLK(0:2) output clock buffers if S2 = 1", 25 PD# (in) "This pin is a power-down mode pin.", 28 VTT_PWRGD# (in) "Qualifying Input that Latches S(0:2) and MULT0", 29 SDATA (io) "Serial Data Input", 30 SCLK (in) "Serial Clock Input", 33 3V66_0 (hiz) "3.3V 66 MHz Fixed-frequency Clock.", 34 PCI_STP# (in) "PCI Clock Disable Input", 35 3V66_1/VCH (hiz) "3.3V Clock Selectable with SMBus Byte0,Bit5, When Byte5,Bit5.", 38 48MDOT (hiz) "Fixed 48 MHZ DOT Clock Outputs", 39 48MUSB (hiz) "Fixed 48 MHz USB Clock Outputs", 40 S2 (in) "Frequency Select Input.", 42 IREF (in) "Current Reference Programming Input for CPU Buffers", 43 MULT0 (in) "Programming Input Selection for CPU Clock Current Multiplier.", 44 CPUC2 (hiz) "Differential Host Output Clock Pairs.", 45 CPUT2 (hiz) "Differential Host Output Clock Pairs.", 48 CPUC1 (hiz) "Differential Host Output Clock Pairs.", 49 CPUT1 (hiz) "Differential Host Output Clock Pairs.", 51 CPUC0 (hiz) "Differential Host Output Clock Pairs.", 52 CPUT0 (hiz) "Differential Host Output Clock Pairs.", 53 CPU_STP# (in) "CPU Clock Disable Input", 54 S0 (in) "Frequency Select Inputs", 55 S1 (in) "Frequency Select Inputs", 56 REF (hiz) "Buffered Output Copy of the Device’s XIN Clock."
part B pins: 1 VDD (power) "3.3V Power Supply", 4 VSS (power) "Common Ground.", 8 VDD (power) "3.3V Power Supply", 9 VSS (power) "Common Ground.", 14 VDD (power) "3.3V Power Supply", 15 VSS (power) "Common Ground.", 19 VDD (power) "3.3V Power Supply", 20 VSS (power) "Common Ground.", 26 VDDA (power) "Analog Power Input.", 27 VSSA (power) "Common Ground.", 31 VSS (power) "Common Ground.", 32 VDD (power) "3.3V Power Supply", 36 VSS (power) "Common Ground.", 37 VDD (power) "3.3V Power Supply", 41 VSSIREF (power) "Current Reference Programming Input for CPU Buffers", 46 VDD (power) "3.3V Power Supply", 47 VSS (power) "Common Ground.", 50 VDD (power) "3.3V Power Supply"

## CY28346ZI-2T
designator U?
Clock Synthesizer with Differential CPU Outputs, 3.3 V, 200 MHz Max Output, 0 to 85 degC, 56-pin SOP, Tape and Reel; Manufacturer: Silicon Labs; PartNumber: CY28346ZI-2T; Output Format: LVCMOS; HCSL; Output Frequency (MHz): 14.318 ; 33 ; 48 ; 66 ; 66 to 200; Phase Jitter (RMS): > 1 ps; Reference Inputs: 1; VDD: 3.3 V; Sub-Family: Clock Generators; DatasheetVersion: Rev. *B; PackageReference: TSSOP-56; PackageDescription: 56-Pin Thin Shrink Small-Outline Package, Body 14 x 6.1 mm, Pitch 0.5 mm; Supplier 1: Digi-Key; Supplier Part Number 1: CY28346ZI-2T-ND; Supplier 2: Mouser; Supplier Part Number 2: 634-CY28346ZI-2T; Packing: Tape and Reel; Mounting Technology: Surface Mount; Code_JEDEC: MO-153; ComponentLink1Description: Manufacturer URL; ComponentLink1URL: http://www.silabs.com/; ComponentLink2Description: Datasheet; ComponentLink2URL: http://www.silabs.com/Support%20Documents/TechnicalDocs/CY28346-2.pdf; ComponentLink3Description: Package Specification; ComponentLink3URL: http://www.silabs.com/Support%20Documents/TechnicalDocs/CY28346-2.pdf
footprint SLAB-TSSOP-56_N (SOP, 56-Leads, Body 14.1x6.2mm, Pitch 0.5mm, IPC Medium Density)
footprint SLAB-TSSOP-56_L (SOP, 56-Leads, Body 14.1x6.2mm, Pitch 0.5mm, IPC High Density)
footprint SLAB-TSSOP-56_M (SOP, 56-Leads, Body 14.1x6.2mm, Pitch 0.5mm, IPC Low Density)
part A pins: 2 XIN (in) "Oscillator Buffer Input", 3 XOUT "Oscillator Buffer Output", 5 PCIF0 (hiz) "33MHz PCI Clocks.", 6 PCIF1 (hiz) "33MHz PCI Clocks.", 7 PCIF2 (hiz) "33MHz PCI Clocks.", 10 PCI0 (hiz) "PCI Clock Outputs", 11 PCI1 (hiz) "PCI Clock Outputs", 12 PCI2 (hiz) "PCI Clock Outputs", 13 PCI3 (hiz) "PCI Clock Outputs", 16 PCI4 (hiz) "PCI Clock Outputs", 17 PCI5 (hiz) "PCI Clock Outputs", 18 PCI6 (hiz) "PCI Clock Outputs", 21 66B0/3V66_2 (hiz) "3.3V Clock Outputs", 22 66B1/3V66_3 (hiz) "3.3V Clock Outputs", 23 66B2/3V66_4 (hiz) "3.3V Clock Outputs", 24 66IN/3V66_5 (io) "Input connection for 66CLK(0:2) output clock buffers if S2 = 1", 25 PD# (in) "This pin is a power-down mode pin.", 28 VTT_PWRGD# (in) "Qualifying Input that Latches S(0:2) and MULT0", 29 SDATA (io) "Serial Data Input", 30 SCLK (in) "Serial Clock Input", 33 3V66_0 (hiz) "3.3V 66 MHz Fixed-frequency Clock.", 34 PCI_STP# (in) "PCI Clock Disable Input", 35 3V66_1/VCH (hiz) "3.3V Clock Selectable with SMBus Byte0,Bit5, When Byte5,Bit5.", 38 48MDOT (hiz) "Fixed 48 MHZ DOT Clock Outputs", 39 48MUSB (hiz) "Fixed 48 MHz USB Clock Outputs", 40 S2 (in) "Frequency Select Input.", 42 IREF (in) "Current Reference Programming Input for CPU Buffers", 43 MULT0 (in) "Programming Input Selection for CPU Clock Current Multiplier.", 44 CPUC2 (hiz) "Differential Host Output Clock Pairs.", 45 CPUT2 (hiz) "Differential Host Output Clock Pairs.", 48 CPUC1 (hiz) "Differential Host Output Clock Pairs.", 49 CPUT1 (hiz) "Differential Host Output Clock Pairs.", 51 CPUC0 (hiz) "Differential Host Output Clock Pairs.", 52 CPUT0 (hiz) "Differential Host Output Clock Pairs.", 53 CPU_STP# (in) "CPU Clock Disable Input", 54 S0 (in) "Frequency Select Inputs", 55 S1 (in) "Frequency Select Inputs", 56 REF (hiz) "Buffered Output Copy of the Device’s XIN Clock."
part B pins: 1 VDD (power) "3.3V Power Supply", 4 VSS (power) "Common Ground.", 8 VDD (power) "3.3V Power Supply", 9 VSS (power) "Common Ground.", 14 VDD (power) "3.3V Power Supply", 15 VSS (power) "Common Ground.", 19 VDD (power) "3.3V Power Supply", 20 VSS (power) "Common Ground.", 26 VDDA (power) "Analog Power Input.", 27 VSSA (power) "Common Ground.", 31 VSS (power) "Common Ground.", 32 VDD (power) "3.3V Power Supply", 36 VSS (power) "Common Ground.", 37 VDD (power) "3.3V Power Supply", 41 VSSIREF (power) "Current Reference Programming Input for CPU Buffers", 46 VDD (power) "3.3V Power Supply", 47 VSS (power) "Common Ground.", 50 VDD (power) "3.3V Power Supply"

## CY28346ZXC
designator U?
Clock Synthesizer with Differential CPU Outputs, 3.3 V, 200 MHz Max Output, 0 to 70 degC, 56-pin SOP, Tube; Manufacturer: Silicon Labs; PartNumber: CY28346ZXC; Output Format: LVCMOS; HCSL; Output Frequency (MHz): 14.318 ; 33 ; 48 ; 66 ; 66 to 200; Phase Jitter (RMS): > 1 ps; Reference Inputs: 1; VDD: 3.3 V; Sub-Family: Clock Generators; DatasheetVersion: Rev. *C; PackageReference: TSSOP-56; PackageDescription: 56-Pin Thin Shrink Small-Outline Package, Body 14 x 6.1 mm, Pitch 0.5 mm; Supplier 1: Digi-Key; Supplier Part Number 1: SLCY28346ZXC-ND; Supplier 2: Mouser; Supplier Part Number 2: 634-CY28346ZXC; Packing: Tube; Mounting Technology: Surface Mount; Code_JEDEC: MO-153; ComponentLink1Description: Manufacturer URL; ComponentLink1URL: http://www.silabs.com/; ComponentLink2Description: Datasheet; ComponentLink2URL: http://www.silabs.com/Support%20Documents/TechnicalDocs/CY28346.pdf; ComponentLink3Description: Package Specification; ComponentLink3URL: http://www.silabs.com/Support%20Documents/TechnicalDocs/CY28346-2.pdf
footprint SLAB-TSSOP-56_N (SOP, 56-Leads, Body 14.1x6.2mm, Pitch 0.5mm, IPC Medium Density)
footprint SLAB-TSSOP-56_L (SOP, 56-Leads, Body 14.1x6.2mm, Pitch 0.5mm, IPC High Density)
footprint SLAB-TSSOP-56_M (SOP, 56-Leads, Body 14.1x6.2mm, Pitch 0.5mm, IPC Low Density)
part A pins: 2 XIN (in) "Oscillator Buffer Input", 3 XOUT "Oscillator Buffer Output", 5 PCIF0 (hiz) "33MHz PCI Clocks.", 6 PCIF1 (hiz) "33MHz PCI Clocks.", 7 PCIF2 (hiz) "33MHz PCI Clocks.", 10 PCI0 (hiz) "PCI Clock Outputs", 11 PCI1 (hiz) "PCI Clock Outputs", 12 PCI2 (hiz) "PCI Clock Outputs", 13 PCI3 (hiz) "PCI Clock Outputs", 16 PCI4 (hiz) "PCI Clock Outputs", 17 PCI5 (hiz) "PCI Clock Outputs", 18 PCI6 (hiz) "PCI Clock Outputs", 21 66B0/3V66_2 (hiz) "3.3V Clock Outputs", 22 66B1/3V66_3 (hiz) "3.3V Clock Outputs", 23 66B2/3V66_4 (hiz) "3.3V Clock Outputs", 24 66IN/3V66_5 (io) "3.3V Clock Outputs", 25 PD# (in) "Power-down Mode Pin", 28 VTT_PG# (in) "Qualifying Input that Latches S(0:2) and MULT0", 29 SDATA (io) "Serial Data Input", 30 SCLK (in) "Serial Clock Input", 33 3V66_0 (hiz) "3.3V 66 MHz Fixed-frequency Clock.", 34 PCI_STP# (in) "PCI Clock Disable Input", 35 3V66_1/VCH (hiz) "3.3V Clock Selectable with SMBus Byte0,Bit5, When Byte5,Bit5.", 38 48MDOT (hiz) "Fixed 48 MHZ DOT Clock Outputs", 39 48MUSB (hiz) "Fixed 48 MHz USB Clock Outputs", 40 S2 (in) "Frequency Select Input.", 42 IREF (in) "Current Reference Programming Input for CPU Buffers", 43 MULT0 (in) "Programming Input Selection for CPU Clock Current Multiplier.", 44 CPUC2 (hiz) "Differential Host Output Clock Pairs.", 45 CPUT2 (hiz) "Differential Host Output Clock Pairs.", 48 CPUC1 (hiz) "Differential Host Output Clock Pairs.", 49 CPUT1 (hiz) "Differential Host Output Clock Pairs.", 51 CPUC0 (hiz) "Differential Host Output Clock Pairs.", 52 CPUT0 (hiz) "Differential Host Output Clock Pairs.", 53 CPU_STP# (in) "CPU Clock Disable Input", 54 S0 (in) "Frequency Select Inputs", 55 S1 (in) "Frequency Select Inputs", 56 REF (hiz) "Buffered Output Copy of the Device’s XIN Clock."
part B pins: 1 VDD (power) "3.3V Power Supply", 4 VSS (power) "Common Ground.", 8 VDD (power) "3.3V Power Supply", 9 VSS (power) "Common Ground.", 14 VDD (power) "3.3V Power Supply", 15 VSS (power) "Common Ground.", 19 VDD (power) "3.3V Power Supply", 20 VSS (power) "Common Ground.", 26 VDDA (power) "Analog Power Input.", 27 VSSA (power) "Common Ground.", 31 VSS (power) "Common Ground.", 32 VDD (power) "3.3V Power Supply", 36 VSS (power) "Common Ground.", 37 VDD (power) "3.3V Power Supply", 41 VSSIREF (power) "Current Reference Programming Input for CPU Buffers", 46 VDD (power) "3.3V Power Supply", 47 VSS (power) "Common Ground.", 50 VDD (power) "3.3V Power Supply"

## CY28346ZXC-2
designator U?
Clock Synthesizer with Differential CPU Outputs, 3.3 V, 200 MHz Max Output, 0 to 70 degC, 56-pin SOP, Tube; Manufacturer: Silicon Labs; PartNumber: CY28346ZXC-2; Output Format: LVCMOS; HCSL; Output Frequency (MHz): 14.318 ; 33 ; 48 ; 66 ; 66 to 200; Phase Jitter (RMS): > 1 ps; Reference Inputs: 1; VDD: 3.3 V; Sub-Family: Clock Generators; DatasheetVersion: Rev. *B; PackageReference: TSSOP-56; PackageDescription: 56-Pin Thin Shrink Small-Outline Package, Body 14 x 6.1 mm, Pitch 0.5 mm; Supplier 1: Digi-Key; Supplier Part Number 1: CY28346ZXC-2-ND; Supplier 2: Mouser; Supplier Part Number 2: 634-CY28346ZXC-2; Packing: Tube; Mounting Technology: Surface Mount; Code_JEDEC: MO-153; ComponentLink1Description: Manufacturer URL; ComponentLink1URL: http://www.silabs.com/; ComponentLink2Description: Datasheet; ComponentLink2URL: http://www.silabs.com/Support%20Documents/TechnicalDocs/CY28346-2.pdf; ComponentLink3Description: Package Specification; ComponentLink3URL: http://www.silabs.com/Support%20Documents/TechnicalDocs/CY28346-2.pdf
footprint SLAB-TSSOP-56_N (SOP, 56-Leads, Body 14.1x6.2mm, Pitch 0.5mm, IPC Medium Density)
footprint SLAB-TSSOP-56_L (SOP, 56-Leads, Body 14.1x6.2mm, Pitch 0.5mm, IPC High Density)
footprint SLAB-TSSOP-56_M (SOP, 56-Leads, Body 14.1x6.2mm, Pitch 0.5mm, IPC Low Density)
part A pins: 2 XIN (in) "Oscillator Buffer Input", 3 XOUT "Oscillator Buffer Output", 5 PCIF0 (hiz) "33MHz PCI Clocks.", 6 PCIF1 (hiz) "33MHz PCI Clocks.", 7 PCIF2 (hiz) "33MHz PCI Clocks.", 10 PCI0 (hiz) "PCI Clock Outputs", 11 PCI1 (hiz) "PCI Clock Outputs", 12 PCI2 (hiz) "PCI Clock Outputs", 13 PCI3 (hiz) "PCI Clock Outputs", 16 PCI4 (hiz) "PCI Clock Outputs", 17 PCI5 (hiz) "PCI Clock Outputs", 18 PCI6 (hiz) "PCI Clock Outputs", 21 66B0/3V66_2 (hiz) "3.3V Clock Outputs", 22 66B1/3V66_3 (hiz) "3.3V Clock Outputs", 23 66B2/3V66_4 (hiz) "3.3V Clock Outputs", 24 66IN/3V66_5 (io) "Input connection for 66CLK(0:2) output clock buffers if S2 = 1", 25 PD# (in) "This pin is a power-down mode pin.", 28 VTT_PWRGD# (in) "Qualifying Input that Latches S(0:2) and MULT0", 29 SDATA (io) "Serial Data Input", 30 SCLK (in) "Serial Clock Input", 33 3V66_0 (hiz) "3.3V 66 MHz Fixed-frequency Clock.", 34 PCI_STP# (in) "PCI Clock Disable Input", 35 3V66_1/VCH (hiz) "3.3V Clock Selectable with SMBus Byte0,Bit5, When Byte5,Bit5.", 38 48MDOT (hiz) "Fixed 48 MHZ DOT Clock Outputs", 39 48MUSB (hiz) "Fixed 48 MHz USB Clock Outputs", 40 S2 (in) "Frequency Select Input.", 42 IREF (in) "Current Reference Programming Input for CPU Buffers", 43 MULT0 (in) "Programming Input Selection for CPU Clock Current Multiplier.", 44 CPUC2 (hiz) "Differential Host Output Clock Pairs.", 45 CPUT2 (hiz) "Differential Host Output Clock Pairs.", 48 CPUC1 (hiz) "Differential Host Output Clock Pairs.", 49 CPUT1 (hiz) "Differential Host Output Clock Pairs.", 51 CPUC0 (hiz) "Differential Host Output Clock Pairs.", 52 CPUT0 (hiz) "Differential Host Output Clock Pairs.", 53 CPU_STP# (in) "CPU Clock Disable Input", 54 S0 (in) "Frequency Select Inputs", 55 S1 (in) "Frequency Select Inputs", 56 REF (hiz) "Buffered Output Copy of the Device’s XIN Clock."
part B pins: 1 VDD (power) "3.3V Power Supply", 4 VSS (power) "Common Ground.", 8 VDD (power) "3.3V Power Supply", 9 VSS (power) "Common Ground.", 14 VDD (power) "3.3V Power Supply", 15 VSS (power) "Common Ground.", 19 VDD (power) "3.3V Power Supply", 20 VSS (power) "Common Ground.", 26 VDDA (power) "Analog Power Input.", 27 VSSA (power) "Common Ground.", 31 VSS (power) "Common Ground.", 32 VDD (power) "3.3V Power Supply", 36 VSS (power) "Common Ground.", 37 VDD (power) "3.3V Power Supply", 41 VSSIREF (power) "Current Reference Programming Input for CPU Buffers", 46 VDD (power) "3.3V Power Supply", 47 VSS (power) "Common Ground.", 50 VDD (power) "3.3V Power Supply"

## CY28346ZXC-2T
designator U?
Clock Synthesizer with Differential CPU Outputs, 3.3 V, 200 MHz Max Output, 0 to 70 degC, 56-pin SOP, Tape and Reel; Manufacturer: Silicon Labs; PartNumber: CY28346ZXC-2T; Output Format: LVCMOS; HCSL; Output Frequency (MHz): 14.318 ; 33 ; 48 ; 66 ; 66 to 200; Phase Jitter (RMS): > 1 ps; Reference Inputs: 1; VDD: 3.3 V; Sub-Family: Clock Generators; DatasheetVersion: Rev. *B; PackageReference: TSSOP-56; PackageDescription: 56-Pin Thin Shrink Small-Outline Package, Body 14 x 6.1 mm, Pitch 0.5 mm; Supplier 1: Digi-Key; Supplier Part Number 1: CY28346ZXC-2T-ND; Supplier 2: Mouser; Supplier Part Number 2: 634-CY28346ZXC-2T; Packing: Tape and Reel; Mounting Technology: Surface Mount; Code_JEDEC: MO-153; ComponentLink1Description: Manufacturer URL; ComponentLink1URL: http://www.silabs.com/; ComponentLink2Description: Datasheet; ComponentLink2URL: http://www.silabs.com/Support%20Documents/TechnicalDocs/CY28346-2.pdf; ComponentLink3Description: Package Specification; ComponentLink3URL: http://www.silabs.com/Support%20Documents/TechnicalDocs/CY28346-2.pdf
footprint SLAB-TSSOP-56_N (SOP, 56-Leads, Body 14.1x6.2mm, Pitch 0.5mm, IPC Medium Density)
footprint SLAB-TSSOP-56_L (SOP, 56-Leads, Body 14.1x6.2mm, Pitch 0.5mm, IPC High Density)
footprint SLAB-TSSOP-56_M (SOP, 56-Leads, Body 14.1x6.2mm, Pitch 0.5mm, IPC Low Density)
part A pins: 2 XIN (in) "Oscillator Buffer Input", 3 XOUT "Oscillator Buffer Output", 5 PCIF0 (hiz) "33MHz PCI Clocks.", 6 PCIF1 (hiz) "33MHz PCI Clocks.", 7 PCIF2 (hiz) "33MHz PCI Clocks.", 10 PCI0 (hiz) "PCI Clock Outputs", 11 PCI1 (hiz) "PCI Clock Outputs", 12 PCI2 (hiz) "PCI Clock Outputs", 13 PCI3 (hiz) "PCI Clock Outputs", 16 PCI4 (hiz) "PCI Clock Outputs", 17 PCI5 (hiz) "PCI Clock Outputs", 18 PCI6 (hiz) "PCI Clock Outputs", 21 66B0/3V66_2 (hiz) "3.3V Clock Outputs", 22 66B1/3V66_3 (hiz) "3.3V Clock Outputs", 23 66B2/3V66_4 (hiz) "3.3V Clock Outputs", 24 66IN/3V66_5 (io) "Input connection for 66CLK(0:2) output clock buffers if S2 = 1", 25 PD# (in) "This pin is a power-down mode pin.", 28 VTT_PWRGD# (in) "Qualifying Input that Latches S(0:2) and MULT0", 29 SDATA (io) "Serial Data Input", 30 SCLK (in) "Serial Clock Input", 33 3V66_0 (hiz) "3.3V 66 MHz Fixed-frequency Clock.", 34 PCI_STP# (in) "PCI Clock Disable Input", 35 3V66_1/VCH (hiz) "3.3V Clock Selectable with SMBus Byte0,Bit5, When Byte5,Bit5.", 38 48MDOT (hiz) "Fixed 48 MHZ DOT Clock Outputs", 39 48MUSB (hiz) "Fixed 48 MHz USB Clock Outputs", 40 S2 (in) "Frequency Select Input.", 42 IREF (in) "Current Reference Programming Input for CPU Buffers", 43 MULT0 (in) "Programming Input Selection for CPU Clock Current Multiplier.", 44 CPUC2 (hiz) "Differential Host Output Clock Pairs.", 45 CPUT2 (hiz) "Differential Host Output Clock Pairs.", 48 CPUC1 (hiz) "Differential Host Output Clock Pairs.", 49 CPUT1 (hiz) "Differential Host Output Clock Pairs.", 51 CPUC0 (hiz) "Differential Host Output Clock Pairs.", 52 CPUT0 (hiz) "Differential Host Output Clock Pairs.", 53 CPU_STP# (in) "CPU Clock Disable Input", 54 S0 (in) "Frequency Select Inputs", 55 S1 (in) "Frequency Select Inputs", 56 REF (hiz) "Buffered Output Copy of the Device’s XIN Clock."
part B pins: 1 VDD (power) "3.3V Power Supply", 4 VSS (power) "Common Ground.", 8 VDD (power) "3.3V Power Supply", 9 VSS (power) "Common Ground.", 14 VDD (power) "3.3V Power Supply", 15 VSS (power) "Common Ground.", 19 VDD (power) "3.3V Power Supply", 20 VSS (power) "Common Ground.", 26 VDDA (power) "Analog Power Input.", 27 VSSA (power) "Common Ground.", 31 VSS (power) "Common Ground.", 32 VDD (power) "3.3V Power Supply", 36 VSS (power) "Common Ground.", 37 VDD (power) "3.3V Power Supply", 41 VSSIREF (power) "Current Reference Programming Input for CPU Buffers", 46 VDD (power) "3.3V Power Supply", 47 VSS (power) "Common Ground.", 50 VDD (power) "3.3V Power Supply"

## CY28346ZXCT
designator U?
Clock Synthesizer with Differential CPU Outputs, 3.3 V, 200 MHz Max Output, 0 to 70 degC, 56-pin SOP, Tape ang Reel; Manufacturer: Silicon Labs; PartNumber: CY28346ZXCT; Output Format: LVCMOS; HCSL; Output Frequency (MHz): 14.318 ; 33 ; 48 ; 66 ; 66 to 200; Packing: Tape and Reel; Phase Jitter (RMS): > 1 ps; Reference Inputs: 1; VDD: 3.3 V; Sub-Family: Clock Generators; DatasheetVersion: Rev. *C; PackageReference: TSSOP-56; PackageDescription: 56-Pin Thin Shrink Small-Outline Package, Body 14 x 6.1 mm, Pitch 0.5 mm; Supplier 1: Digi-Key; Supplier Part Number 1: SLCY28346ZXCT-ND; Supplier 2: Mouser; Supplier Part Number 2: 634-CY28346ZXCT; Mounting Technology: Surface Mount; Code_JEDEC: MO-153; ComponentLink1Description: Manufacturer URL; ComponentLink1URL: http://www.silabs.com/; ComponentLink2Description: Datasheet; ComponentLink2URL: http://www.silabs.com/Support%20Documents/TechnicalDocs/CY28346.pdf; ComponentLink3Description: Package Specification; ComponentLink3URL: http://www.silabs.com/Support%20Documents/TechnicalDocs/CY28346-2.pdf
footprint SLAB-TSSOP-56_N (SOP, 56-Leads, Body 14.1x6.2mm, Pitch 0.5mm, IPC Medium Density)
footprint SLAB-TSSOP-56_L (SOP, 56-Leads, Body 14.1x6.2mm, Pitch 0.5mm, IPC High Density)
footprint SLAB-TSSOP-56_M (SOP, 56-Leads, Body 14.1x6.2mm, Pitch 0.5mm, IPC Low Density)
part A pins: 2 XIN (in) "Oscillator Buffer Input", 3 XOUT "Oscillator Buffer Output", 5 PCIF0 (hiz) "33MHz PCI Clocks.", 6 PCIF1 (hiz) "33MHz PCI Clocks.", 7 PCIF2 (hiz) "33MHz PCI Clocks.", 10 PCI0 (hiz) "PCI Clock Outputs", 11 PCI1 (hiz) "PCI Clock Outputs", 12 PCI2 (hiz) "PCI Clock Outputs", 13 PCI3 (hiz) "PCI Clock Outputs", 16 PCI4 (hiz) "PCI Clock Outputs", 17 PCI5 (hiz) "PCI Clock Outputs", 18 PCI6 (hiz) "PCI Clock Outputs", 21 66B0/3V66_2 (hiz) "3.3V Clock Outputs", 22 66B1/3V66_3 (hiz) "3.3V Clock Outputs", 23 66B2/3V66_4 (hiz) "3.3V Clock Outputs", 24 66IN/3V66_5 (io) "3.3V Clock Outputs", 25 PD# (in) "Power-down Mode Pin", 28 VTT_PG# (in) "Qualifying Input that Latches S(0:2) and MULT0", 29 SDATA (io) "Serial Data Input", 30 SCLK (in) "Serial Clock Input", 33 3V66_0 (hiz) "3.3V 66 MHz Fixed-frequency Clock.", 34 PCI_STP# (in) "PCI Clock Disable Input", 35 3V66_1/VCH (hiz) "3.3V Clock Selectable with SMBus Byte0,Bit5, When Byte5,Bit5.", 38 48MDOT (hiz) "Fixed 48 MHZ DOT Clock Outputs", 39 48MUSB (hiz) "Fixed 48 MHz USB Clock Outputs", 40 S2 (in) "Frequency Select Input.", 42 IREF (in) "Current Reference Programming Input for CPU Buffers", 43 MULT0 (in) "Programming Input Selection for CPU Clock Current Multiplier.", 44 CPUC2 (hiz) "Differential Host Output Clock Pairs.", 45 CPUT2 (hiz) "Differential Host Output Clock Pairs.", 48 CPUC1 (hiz) "Differential Host Output Clock Pairs.", 49 CPUT1 (hiz) "Differential Host Output Clock Pairs.", 51 CPUC0 (hiz) "Differential Host Output Clock Pairs.", 52 CPUT0 (hiz) "Differential Host Output Clock Pairs.", 53 CPU_STP# (in) "CPU Clock Disable Input", 54 S0 (in) "Frequency Select Inputs", 55 S1 (in) "Frequency Select Inputs", 56 REF (hiz) "Buffered Output Copy of the Device’s XIN Clock."
part B pins: 1 VDD (power) "3.3V Power Supply", 4 VSS (power) "Common Ground.", 8 VDD (power) "3.3V Power Supply", 9 VSS (power) "Common Ground.", 14 VDD (power) "3.3V Power Supply", 15 VSS (power) "Common Ground.", 19 VDD (power) "3.3V Power Supply", 20 VSS (power) "Common Ground.", 26 VDDA (power) "Analog Power Input.", 27 VSSA (power) "Common Ground.", 31 VSS (power) "Common Ground.", 32 VDD (power) "3.3V Power Supply", 36 VSS (power) "Common Ground.", 37 VDD (power) "3.3V Power Supply", 41 VSSIREF (power) "Current Reference Programming Input for CPU Buffers", 46 VDD (power) "3.3V Power Supply", 47 VSS (power) "Common Ground.", 50 VDD (power) "3.3V Power Supply"